# Altium schematic symbol library eclb40w-110s15.SchLib: 1 symbol
Pins are listed as number, name and electrical type; pins without a type are passive.

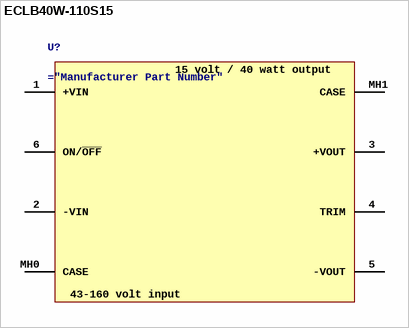
[diagram p0: symbol ECLB40W-110S15]

## ECLB40W-110S15
designator U?
Isolated Module DC DC Converter 1 Output 15V 2.666A 43V - 160V Input
pins: 1 +VIN, 2 -VIN, 3 +VOUT, 4 TRIM, 5 -VOUT, 6 ON/~{OFF}, MH0 CASE, MH1 CASE
text: 15 volt / 40 watt output; 43-160 volt input